# Altium footprint library DIP-CN  0607.PcbLib: 329 footprints (part 14 of 21)
Each footprint in its own frame and in the unit in brackets; x right, y up, seen from the top. Pads: shape width x height; smd on the part's side, far side on the other; paste and mask are expansions set on the pad; w line width, h text height; cw(c..) or ccw(c..) is an arc to the next point about the centre after c.
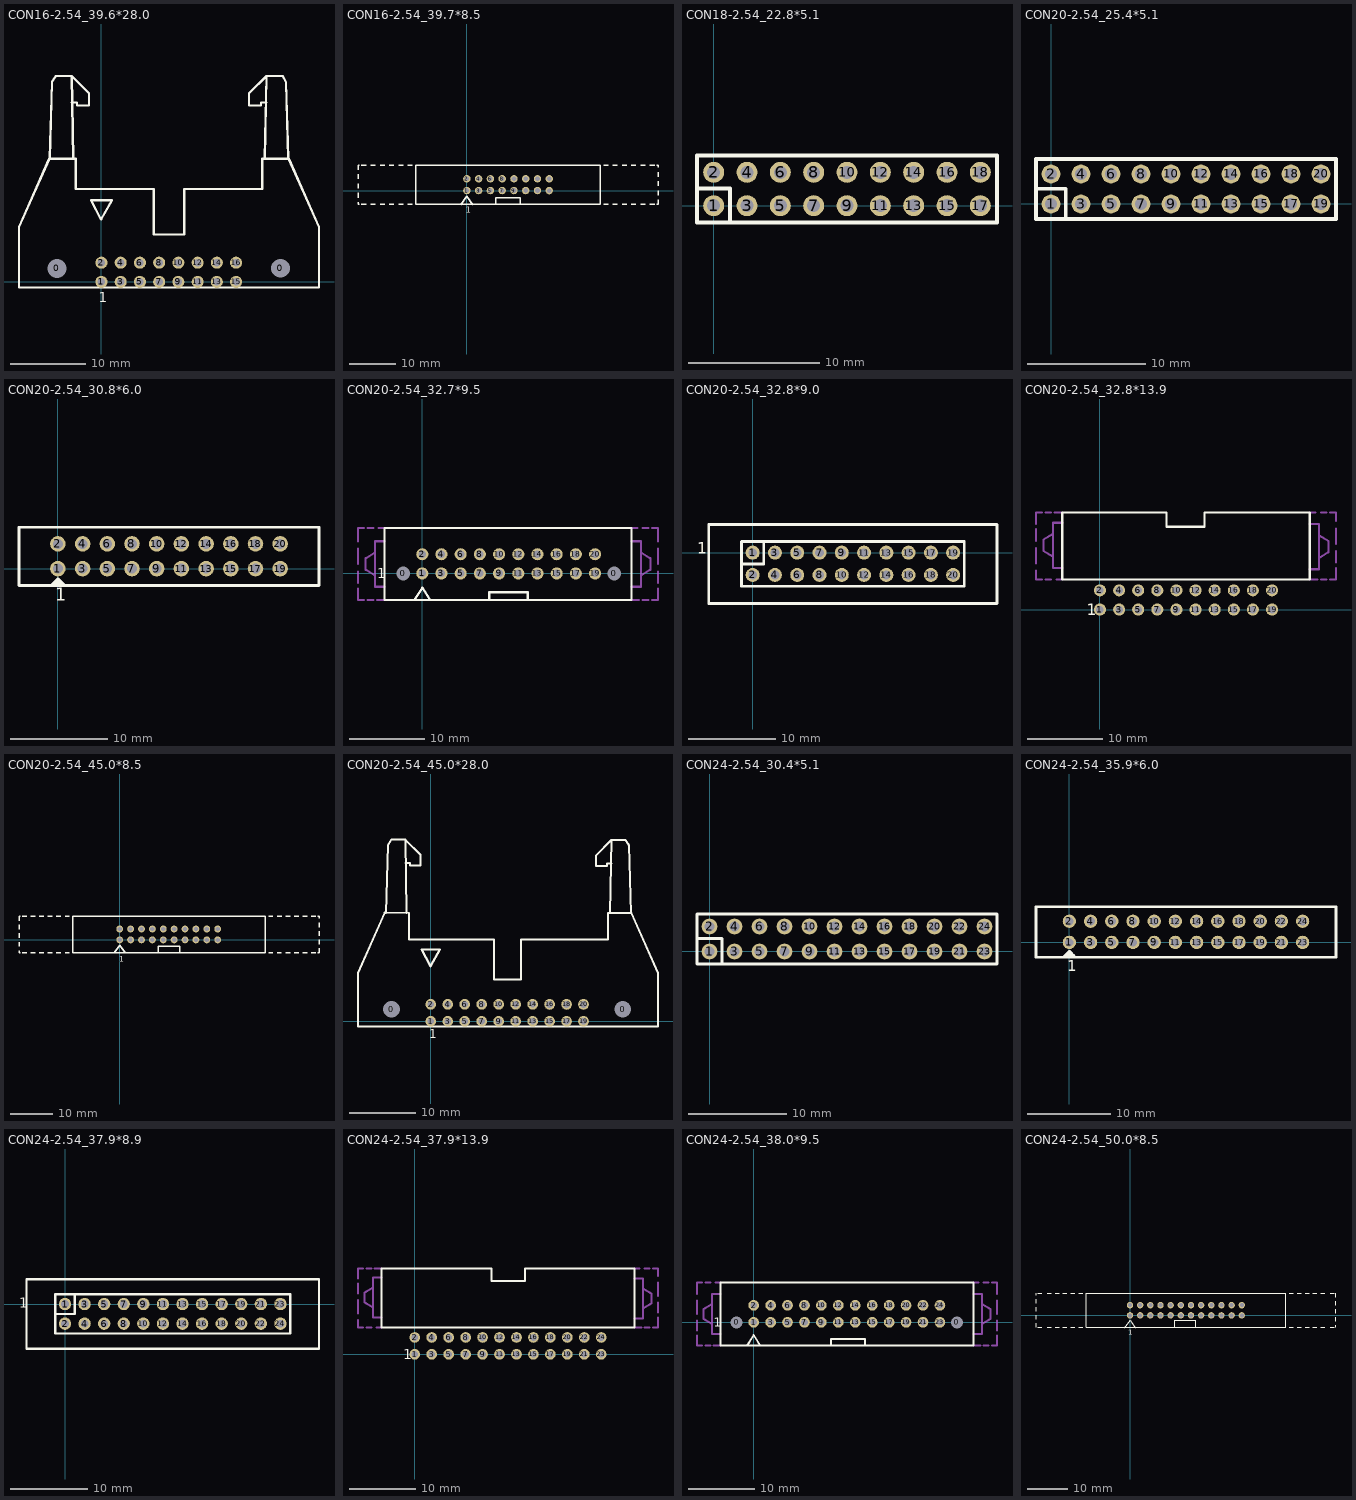
[diagram p13: the footprints below, top view; thin cyan lines are the x and y axes]

## CON16-2.54_39.6*28.0 [mm]
pads (18):
  round 1.6 hole 2.5 unplated: 0(-5.881,1.797) 0(23.621,1.801)
  round 1.6 hole 1: 1(0,0) 2(0,2.54) 3(2.54,0) 4(2.54,2.54) 5(5.08,0) 6(5.08,2.54) 7(7.62,0) 8(7.62,2.54) 9(10.16,0) 10(10.16,2.54) 11(12.7,0) 12(12.7,2.54) 13(15.24,0) 14(15.24,2.54) 15(17.779,-0.003) 16(17.779,2.537)
TopOverlay:
  lines w0.3: -6.828,16.257 -6.528,26.397 -6.028,27.197 -3.928,27.197 ; -3.928,23.697 -3.228,23.697 -3.228,23.297 -1.628,23.297 -1.628,24.897 -3.928,27.197 ; -3.728,16.257 -3.928,27.197 ; 21.58,16.253 21.78,27.193 ; 21.78,23.693 21.08,23.693 21.08,23.293 19.48,23.293 19.48,24.893 21.78,27.193 ; 24.68,16.253 24.38,26.393 23.88,27.193 21.78,27.193 ; -10.881,-0.743 28.726,-0.739 28.726,7.262 24.738,16.253 21.233,16.253 21.233,12.266 10.921,12.266 10.921,6.246 6.908,6.246 6.908,12.266 -3.381,12.257 -3.381,16.257 -6.881,16.257 -10.881,7.257 -10.881,-0.743 ; -1.381,10.782 -0.031,8.232 1.394,10.782 -1.381,10.782
  text "1" at -0.381,-2.667 h1.3
BottomOverlay:
  lines w0.3: -1.016,1.27 18.415,1.27 ; 1.27,-0.829 1.27,3.616 ; 3.81,-0.829 3.81,3.616 ; 6.35,-0.829 6.35,3.616 ; 8.89,-0.829 8.89,3.616 ; 11.43,-0.829 11.43,3.616 ; 13.97,-0.829 13.97,3.616 ; 16.51,-0.829 16.51,3.616

## CON16-2.54_39.7*8.5 [mm]
pads (16):
  round 1.6 hole 1: 1(0,0) 2(0,2.54) 3(2.54,0) 4(2.54,2.54) 5(5.08,0) 6(5.08,2.54) 7(7.62,0) 8(7.62,2.54) 9(10.16,0) 10(10.16,2.54) 11(12.7,0) 12(12.7,2.54) 13(15.24,0) 14(15.24,2.54) 15(17.779,-0.003) 16(17.779,2.537)
TopOverlay:
  lines w0.3: -23.5,-2.5 -23.5,-3 -23.25,-3 ; -23.5,-1.5 -23.5,-0.5 ; -23.5,0.5 -23.5,1.5 ; -23.5,2.5 -23.5,3.5 ; -23.5,4.5 -23.5,5.5 -23.25,5.5 ; -22.75,-3 -21.75,-3 ; -22.75,5.5 -21.75,5.5 ; -20.75,-3 -19.75,-3 ; -20.75,5.5 -19.75,5.5 ; -18.75,-3 -17.75,-3 ; -18.75,5.5 -17.75,5.5 ; -16.75,-3 -15.75,-3 ; -16.75,5.5 -15.75,5.5 ; -14.75,-3 -13.75,-3 ; -14.75,5.5 -13.75,5.5 ; -12.75,-3 -11.75,-3 ; -12.75,5.5 -11.75,5.5 ; -1.27,-3.048 0,-1.27 1.27,-3.048 ; 6.25,-3 6.25,-1.5 11.5,-1.5 11.5,-3 ; 29.5,-3 30.5,-3 ; 29.5,5.5 30.5,5.5 ; 31.5,-3 32.5,-3 ; 31.5,5.5 32.5,5.5 ; 33.5,-3 34.5,-3 ; 33.5,5.5 34.5,5.5 ; 35.5,-3 36.5,-3 ; 35.5,5.5 36.5,5.5 ; 37.5,-3 38.5,-3 ; 37.5,5.5 38.5,5.5 ; 39.5,-3 40.5,-3 ; 39.5,5.5 40.5,5.5 ; 41,-3 41.25,-3 41.25,-2 ; 41,5.5 41.25,5.5 41.25,5 ; 41.25,-1 41.25,0 ; 41.25,1 41.25,2 ; 41.25,3 41.25,4 ; -11,-3 -11,5.5 28.75,5.5 28.75,-3 -11,-3
  text "1" at -0.254,-4.826 h1.3
BottomOverlay:
  lines w0.3: -1.016,1.27 18.415,1.27 ; 1.27,-0.829 1.27,3.616 ; 3.81,-0.829 3.81,3.616 ; 6.35,-0.829 6.35,3.616 ; 8.89,-0.829 8.89,3.616 ; 11.43,-0.829 11.43,3.616 ; 13.97,-0.829 13.97,3.616 ; 16.51,-0.829 16.51,3.616

## CON18-2.54_22.8*5.1 [mm]
pads (18):
  round 1.6 hole 1: 1(0,0) 2(0,2.54) 3(2.54,0) 4(2.54,2.54) 5(5.08,0) 6(5.08,2.54) 7(7.62,0) 8(7.62,2.54) 9(10.16,0) 10(10.16,2.54) 11(12.7,0) 12(12.7,2.54) 13(15.24,0) 14(15.24,2.54) 15(17.78,0) 16(17.78,2.54) 17(20.32,0) 18(20.32,2.54)
TopOverlay:
  lines w0.3: -1.27,1.3 1.25,1.3 1.25,-1.245 ; -1.27,-1.27 -1.27,3.81 21.59,3.81 21.59,-1.27 -1.27,-1.27

## CON20-2.54_25.4*5.1 [mm]
pads (20):
  round 1.6 hole 1: 1(0,0) 2(0,2.54) 3(2.54,0) 4(2.54,2.54) 5(5.08,0) 6(5.08,2.54) 7(7.62,0) 8(7.62,2.54) 9(10.16,0) 10(10.16,2.54) 11(12.7,0) 12(12.7,2.54) 13(15.24,0) 14(15.24,2.54) 15(17.78,0) 16(17.78,2.54) 17(20.32,0) 18(20.32,2.54) 19(22.86,0) 20(22.86,2.54)
TopOverlay:
  lines w0.3: -1.27,1.3 1.25,1.3 1.25,-1.245 ; -1.27,-1.27 24.13,-1.27 24.13,3.81 -1.27,3.81 -1.27,-1.27

## CON20-2.54_30.8*6.0 [mm]
pads (20):
  round 1.6 hole 1: 1(0,0) 2(0,2.54) 3(2.54,0) 4(2.54,2.54) 5(5.08,0) 6(5.08,2.54) 7(7.62,0) 8(7.62,2.54) 9(10.16,0) 10(10.16,2.54) 11(12.7,0) 12(12.7,2.54) 13(15.24,0) 14(15.24,2.54) 15(17.78,0) 16(17.78,2.54) 17(20.32,0) 18(20.32,2.54) 19(22.86,0) 20(22.86,2.54)
TopOverlay:
  lines w0.3: -0.7,-1.75 0,-1.05 ; -0.515,-1.565 0.515,-1.565 ; -0.423,-1.473 0.306,-1.473 ; -0.258,-1.308 0.251,-1.308 ; 0,-1.75 0,-1.05 ; 0.7,-1.75 0,-1.05 ; -4,-1.75 26.85,-1.75 26.85,4.25 -4,4.25 -4,-1.75
  text "1" at -0.254,-3.302 h1.3
BottomOverlay:
  lines w0.3: -1.016,1.27 23.876,1.27 ; 1.27,-0.829 1.27,3.616 ; 3.81,-0.829 3.81,3.616 ; 6.35,-0.829 6.35,3.616 ; 8.89,-0.829 8.89,3.616 ; 11.43,-0.829 11.43,3.616 ; 13.97,-0.829 13.97,3.616 ; 16.51,-0.829 16.51,3.616 ; 19.05,-0.829 19.05,3.616 ; 21.59,-0.829 21.59,3.616

## CON20-2.54_32.7*9.5 [mm]
pads (22):
  round 1.5 hole 1.8 unplated: 0(-2.54,0) 0(25.4,0)
  round 1.6 hole 1: 1(0,0) 2(0,2.54) 3(2.54,0) 4(2.54,2.54) 5(5.08,0) 6(5.08,2.54) 7(7.62,0) 8(7.62,2.54) 9(10.16,0) 10(10.16,2.54) 11(12.7,0) 12(12.7,2.54) 13(15.24,0) 14(15.24,2.54) 15(17.78,0) 16(17.78,2.54) 17(20.32,0) 18(20.32,2.54) 19(22.86,0) 20(22.86,2.54)
TopOverlay:
  lines w0.3: 8.85,-3.5 8.85,-2.5 13.97,-2.5 13.97,-3.5 ; -1,-3.5 0,-1.905 1,-3.5 ; -1,-3.5 1,-3.5 ; -1,-3.5 1,-3.5 ; -1,-3.5 1,-3.5 ; -5,-3.5 27.686,-3.5 27.686,6 -5,6 -5,-3.5
  text "1" at -5.969,-0.635 h1.3
BottomOverlay:
  lines w0.3: -1.016,1.27 23.876,1.27 ; 1.27,-0.829 1.27,3.616 ; 3.81,-0.829 3.81,3.616 ; 6.35,-0.829 6.35,3.616 ; 8.89,-0.829 8.89,3.616 ; 11.43,-0.829 11.43,3.616 ; 13.97,-0.829 13.97,3.616 ; 16.51,-0.829 16.51,3.616 ; 19.05,-0.829 19.05,3.616 ; 21.59,-0.829 21.59,3.616
Mechanical7:
  lines w0.3: -8.5,-2 -8.5,-3.5 -7.75,-3.5 ; -8.5,-1.25 -8.5,0.25 ; -8.5,1.25 -8.5,3.25 ; -8.5,4.25 -8.5,6 -7.75,6 ; -7.25,-3.5 -6.5,-3.5 ; -7.25,6 -6.5,6 ; -6,-3.5 -5,-3.5 ; -5.75,6 -5,6 ; -5,-1.75 -6.25,-1.75 -6.25,-0.25 ; -5,4.25 -6.25,4.25 -6.25,2.75 ; 27.686,-3.5 28.686,-3.5 ; 27.686,-1.75 28.936,-1.75 28.936,-0.25 ; 27.686,4.25 28.936,4.25 28.936,2.75 ; 27.686,6 28.436,6 ; 29.186,-3.5 29.936,-3.5 ; 29.186,6 29.936,6 ; 30.436,-3.5 31.186,-3.5 31.186,-2 ; 30.436,6 31.186,6 31.186,4.25 ; 31.186,-1.25 31.186,0.25 ; 31.186,1.25 31.186,3.25 ; -6.25,-0.25 -7.5,0.5 -7.5,2 -6.25,2.75 ; -6.25,-0.25 -6.25,2.75 ; 28.936,-0.25 30.186,0.5 30.186,2 28.936,2.75 ; 28.936,-0.25 28.936,2.75

## CON20-2.54_32.8*9.0 [mm]
pads (20):
  round 1.6 hole 1: 1(0,0) 2(0,-2.54) 3(2.54,0) 4(2.54,-2.54) 5(5.08,0) 6(5.08,-2.54) 7(7.62,0) 8(7.62,-2.54) 9(10.16,0) 10(10.16,-2.54) 11(12.7,0) 12(12.7,-2.54) 13(15.24,0) 14(15.24,-2.54) 15(17.78,0) 16(17.78,-2.54) 17(20.32,0) 18(20.32,-2.54) 19(22.86,0) 20(22.86,-2.54)
TopOverlay:
  lines w0.3: -1.27,-1.29 1.25,-1.29 ; 1.27,-1.27 1.27,1.25 ; -5,-5.79 27.86,-5.79 27.86,3.21 -5,3.21 -5,-5.79 ; -1.27,-3.81 -1.27,1.27 24.13,1.27 24.13,-3.81 -1.27,-3.81
  text "1" at -6.35,-0.127 h1.3
BottomOverlay:
  lines w0.3: -1.016,-1.29 23.876,-1.29 ; 1.27,-3.429 1.27,1.016 ; 3.81,-3.429 3.81,1.016 ; 6.35,-3.429 6.35,1.016 ; 8.89,-3.429 8.89,1.016 ; 11.43,-3.429 11.43,1.016 ; 13.97,-3.429 13.97,1.016 ; 16.51,-3.429 16.51,1.016 ; 19.05,-3.429 19.05,1.016 ; 21.59,-3.429 21.59,1.016

## CON20-2.54_32.8*13.9 [mm]
pads (20):
  round 1.6 hole 1: 1(0,0) 2(0,2.54) 3(2.54,0) 4(2.54,2.54) 5(5.08,0) 6(5.08,2.54) 7(7.62,0) 8(7.62,2.54) 9(10.16,0) 10(10.16,2.54) 11(12.7,0) 12(12.7,2.54) 13(15.24,0) 14(15.24,2.54) 15(17.78,0) 16(17.78,2.54) 17(20.32,0) 18(20.32,2.54) 19(22.86,0) 20(22.86,2.54)
TopOverlay:
  lines w0.3: -5,4 -5,12.9 8.85,12.9 8.85,11 13.9,11 13.9,12.9 27.86,12.9 27.86,4 -5,4
  text "1" at -1.75,-0.75 h1.52
Mechanical7:
  lines w0.3: -8.5,5.15 -8.5,4 -7.75,4 ; -8.5,6.15 -8.5,8.15 ; -8.5,9.15 -8.5,10.65 ; -8.5,11.4 -8.5,12.9 -7.75,12.9 ; -7.25,4 -6.5,4 ; -7.25,12.9 -6.5,12.9 ; -6,12.9 -5,12.9 ; -5.75,4 -5,4 ; -5,5.531 -6.25,5.531 -6.25,7.031 ; -5,11.531 -6.25,11.531 -6.25,10.031 ; 27.86,4 28.86,4 ; 27.86,5.369 29.11,5.369 29.11,6.869 ; 27.86,11.369 29.11,11.369 29.11,9.869 ; 27.86,12.9 28.61,12.9 ; 29.36,4 30.11,4 ; 29.36,12.9 30.11,12.9 ; 30.61,4 31.36,4 31.36,5.5 ; 30.61,12.9 31.36,12.9 31.36,11.75 ; 31.36,6.25 31.36,7.75 ; 31.36,8.75 31.36,10.75 ; -6.25,7.031 -6.25,10.031 ; -6.25,7.031 -7.5,7.781 -7.5,9.281 -6.25,10.031 ; 29.11,6.869 30.36,7.619 30.36,9.119 29.11,9.869 ; 29.11,6.869 29.11,9.869

## CON20-2.54_45.0*8.5 [mm]
pads (20):
  round 1.6 hole 1: 1(0.001,0.003) 2(0.001,2.543) 3(2.541,0.003) 4(2.541,2.543) 5(5.081,0.003) 6(5.081,2.543) 7(7.621,0.003) 8(7.621,2.543) 9(10.161,0.003) 10(10.161,2.543) 11(12.701,0.003) 12(12.701,2.543) 13(15.241,0.003) 14(15.241,2.543) 15(17.78,0) 16(17.78,2.54) 17(20.32,0) 18(20.32,2.54) 19(22.86,0) 20(22.86,2.54)
TopOverlay:
  lines w0.3: -23.5,-2.5 -23.5,-3 -23.25,-3 ; -23.5,-1.5 -23.5,-0.5 ; -23.5,0.5 -23.5,1.5 ; -23.5,2.5 -23.5,3.5 ; -23.5,4.5 -23.5,5.5 -23.25,5.5 ; -22.75,-3 -21.75,-3 ; -22.75,5.5 -21.75,5.5 ; -20.75,-3 -19.75,-3 ; -20.75,5.5 -19.75,5.5 ; -18.75,-3 -17.75,-3 ; -18.75,5.5 -17.75,5.5 ; -16.75,-3 -15.75,-3 ; -16.75,5.5 -15.75,5.5 ; -14.75,-3 -13.75,-3 ; -14.75,5.5 -13.75,5.5 ; -12.75,-3 -11.75,-3 ; -12.75,5.5 -11.75,5.5 ; -1.27,-3.048 0,-1.27 1.27,-3.048 ; 9,-3 9,-1.5 14,-1.5 14,-3 ; 34.75,-3 35.75,-3 ; 34.75,5.5 35.75,5.5 ; 36.75,-3 37.75,-3 ; 36.75,5.5 37.75,5.5 ; 38.75,-3 39.75,-3 ; 38.75,5.5 39.75,5.5 ; 40.75,-3 41.75,-3 ; 40.75,5.5 41.75,5.5 ; 42.75,-3 43.75,-3 ; 42.75,5.5 43.75,5.5 ; 44.75,-3 45.75,-3 ; 44.75,5.5 45.75,5.5 ; 46.25,-3 46.5,-3 46.5,-2 ; 46.25,5.5 46.5,5.5 46.5,5 ; 46.5,-1 46.5,0 ; 46.5,1 46.5,2 ; 46.5,3 46.5,4 ; -11,-3 -11,5.5 34,5.5 34,-3 -11,-3
  text "1" at -0.127,-5.08 h1.3
BottomOverlay:
  lines w0.3: -1.015,1.273 23.877,1.273 ; 1.271,-0.826 1.271,3.619 ; 3.811,-0.826 3.811,3.619 ; 6.351,-0.826 6.351,3.619 ; 8.891,-0.826 8.891,3.619 ; 11.431,-0.826 11.431,3.619 ; 13.971,-0.826 13.971,3.619 ; 16.511,-0.826 16.511,3.619 ; 19.051,-0.826 19.051,3.619 ; 21.591,-0.826 21.591,3.619

## CON20-2.54_45.0*28.0 [mm]
pads (22):
  round 1.6 hole 2.5 unplated: 0(-5.881,1.797) 0(28.739,1.797)
  round 1.6 hole 1: 1(0,0) 2(0,2.54) 3(2.54,0) 4(2.54,2.54) 5(5.08,0) 6(5.08,2.54) 7(7.62,0) 8(7.62,2.54) 9(10.16,0) 10(10.16,2.54) 11(12.7,0) 12(12.7,2.54) 13(15.24,0) 14(15.24,2.54) 15(17.779,-0.003) 16(17.779,2.537) 17(20.319,-0.003) 18(20.319,2.537) 19(22.859,-0.003) 20(22.859,2.537)
TopOverlay:
  lines w0.3: -6.698,16.247 -6.398,26.387 -5.898,27.187 -3.798,27.187 ; -3.798,23.687 -3.098,23.687 -3.098,23.287 -1.498,23.287 -1.498,24.887 -3.798,27.187 ; -3.598,16.247 -3.798,27.187 ; 26.846,16.2 27.046,27.139 ; 27.046,23.639 26.346,23.639 26.346,23.239 24.746,23.239 24.746,24.839 27.046,27.139 ; 29.946,16.2 29.646,26.339 29.146,27.139 27.046,27.139 ; -10.881,-0.743 -10.881,7.257 -6.881,16.257 -3.251,16.247 -3.251,12.247 9.499,12.247 9.499,6.247 13.499,6.247 13.499,12.247 26.499,12.247 26.499,16.247 29.999,16.247 33.999,7.247 33.999,-0.753 -10.881,-0.743 ; -1.381,10.782 -0.031,8.232 1.394,10.782 -1.381,10.782
  text "1" at -0.254,-2.54 h1.3
BottomOverlay:
  lines w0.3: -1.016,1.27 23.876,1.27 ; 1.27,-0.829 1.27,3.616 ; 3.81,-0.829 3.81,3.616 ; 6.35,-0.829 6.35,3.616 ; 8.89,-0.829 8.89,3.616 ; 11.43,-0.829 11.43,3.616 ; 13.97,-0.829 13.97,3.616 ; 16.51,-0.829 16.51,3.616 ; 19.05,-0.829 19.05,3.616 ; 21.59,-0.829 21.59,3.616

## CON24-2.54_30.4*5.1 [mm]
pads (24):
  round 1.6 hole 1: 1(0,0) 2(0,2.54) 3(2.54,0) 4(2.54,2.54) 5(5.08,0) 6(5.08,2.54) 7(7.62,0) 8(7.62,2.54) 9(10.16,0) 10(10.16,2.54) 11(12.7,0) 12(12.7,2.54) 13(15.24,0) 14(15.24,2.54) 15(17.78,0) 16(17.78,2.54) 17(20.32,0) 18(20.32,2.54) 19(22.86,0) 20(22.86,2.54) 21(25.4,0) 22(25.4,2.54) 23(27.94,0) 24(27.94,2.54)
TopOverlay:
  lines w0.3: -1.27,1.3 1.25,1.3 1.25,-1.245 ; -1.27,-1.27 -1.27,3.81 29.21,3.81 29.21,-1.27 -1.27,-1.27

## CON24-2.54_35.9*6.0 [mm]
pads (24):
  round 1.6 hole 1: 1(0,0) 2(0,2.54) 3(2.54,0) 4(2.54,2.54) 5(5.08,0) 6(5.08,2.54) 7(7.62,0) 8(7.62,2.54) 9(10.16,0) 10(10.16,2.54) 11(12.7,0) 12(12.7,2.54) 13(15.24,0) 14(15.24,2.54) 15(17.78,0) 16(17.78,2.54) 17(20.32,0) 18(20.32,2.54) 19(22.86,0) 20(22.86,2.54) 21(25.4,0) 22(25.4,2.54) 23(27.94,0) 24(27.94,2.54)
TopOverlay:
  lines w0.3: -0.7,-1.75 0,-1.05 ; -0.515,-1.565 0.515,-1.565 ; -0.423,-1.473 0.306,-1.473 ; -0.258,-1.308 0.251,-1.308 ; 0,-1.75 0,-1.05 ; 0.7,-1.75 0,-1.05 ; -4,-1.75 -4,4.25 31.94,4.25 31.94,-1.75 -4,-1.75
  text "1" at -0.254,-3.429 h1.3

## CON24-2.54_37.9*8.9 [mm]
pads (24):
  round 1.6 hole 1: 1(0,0) 2(0,-2.54) 3(2.54,0) 4(2.54,-2.54) 5(5.08,0) 6(5.08,-2.54) 7(7.62,0) 8(7.62,-2.54) 9(10.16,0) 10(10.16,-2.54) 11(12.7,0) 12(12.7,-2.54) 13(15.24,0) 14(15.24,-2.54) 15(17.78,0) 16(17.78,-2.54) 17(20.32,0) 18(20.32,-2.54) 19(22.86,0) 20(22.86,-2.54) 21(25.4,0) 22(25.4,-2.54) 23(27.94,0) 24(27.94,-2.54)
TopOverlay:
  lines w0.3: -1.27,-1.29 1.25,-1.29 1.25,1.23 ; -5,-5.79 -5,3.21 32.94,3.21 32.94,-5.79 -5,-5.79 ; -1.27,-3.81 29.21,-3.81 29.21,1.27 -1.27,1.27 -1.27,-3.81
  text "1" at -5.969,-0.508 h1.3
BottomOverlay:
  lines w0.3: -1.016,-1.29 28.956,-1.29 ; 1.25,-3.429 1.25,1.016 ; 3.81,-3.429 3.81,1.016 ; 6.35,-3.429 6.35,1.016 ; 8.89,-3.429 8.89,1.016 ; 11.43,-3.429 11.43,1.016 ; 13.97,-3.429 13.97,1.016 ; 16.51,-3.429 16.51,1.016 ; 19.05,-3.556 19.05,0.889 ; 21.59,-3.556 21.59,0.889 ; 24.257,-3.556 24.257,0.889 ; 26.67,-3.556 26.67,0.889

## CON24-2.54_37.9*13.9 [mm]
pads (24):
  round 1.6 hole 1: 1(0,0) 2(0,2.54) 3(2.54,0) 4(2.54,2.54) 5(5.08,0) 6(5.08,2.54) 7(7.62,0) 8(7.62,2.54) 9(10.16,0) 10(10.16,2.54) 11(12.7,0) 12(12.7,2.54) 13(15.24,0) 14(15.24,2.54) 15(17.78,0) 16(17.78,2.54) 17(20.32,0) 18(20.32,2.54) 19(22.86,0) 20(22.86,2.54) 21(25.4,0) 22(25.4,2.54) 23(27.94,0) 24(27.94,2.54)
TopOverlay:
  lines w0.3: -5,4 -5,12.9 11.5,12.9 11.5,11 16.55,11 16.55,12.9 32.94,12.9 32.94,4 -5,4
  text "1" at -1.75,-0.75 h1.52
Mechanical7:
  lines w0.3: -8.5,5.15 -8.5,4 -7.75,4 ; -8.5,6.15 -8.5,8.15 ; -8.5,9.15 -8.5,10.65 ; -8.5,11.4 -8.5,12.9 -7.75,12.9 ; -7.25,4 -6.5,4 ; -7.25,12.9 -6.5,12.9 ; -6,12.9 -5,12.9 ; -5.75,4 -5,4 ; -5,5.531 -6.25,5.531 -6.25,7.031 ; -5,11.531 -6.25,11.531 -6.25,10.031 ; 32.94,4 33.94,4 ; 32.94,5.369 34.19,5.369 34.19,6.869 ; 32.94,11.369 34.19,11.369 34.19,9.869 ; 32.94,12.9 33.69,12.9 ; 34.44,4 35.19,4 ; 34.44,12.9 35.19,12.9 ; 35.69,4 36.44,4 36.44,5.5 ; 35.69,12.9 36.44,12.9 36.44,11.75 ; 36.44,6.25 36.44,7.75 ; 36.44,8.75 36.44,10.75 ; -6.25,7.031 -7.5,7.781 -7.5,9.281 -6.25,10.031 ; -6.25,7.031 -6.25,10.031 ; 34.19,6.869 35.44,7.619 35.44,9.119 34.19,9.869 ; 34.19,6.869 34.19,9.869

## CON24-2.54_38.0*9.5 [mm]
pads (26):
  round 1.5 hole 1.8 unplated: 0(-2.54,0) 0(30.48,0)
  round 1.6 hole 1: 1(0,0) 2(0,2.54) 3(2.54,0) 4(2.54,2.54) 5(5.08,0) 6(5.08,2.54) 7(7.62,0) 8(7.62,2.54) 9(10.16,0) 10(10.16,2.54) 11(12.7,0) 12(12.7,2.54) 13(15.24,0) 14(15.24,2.54) 15(17.78,0) 16(17.78,2.54) 17(20.32,0) 18(20.32,2.54) 19(22.86,0) 20(22.86,2.54) 21(25.4,0) 22(25.4,2.54) 23(27.94,0) 24(27.94,2.54)
TopOverlay:
  lines w0.3: -5,6 -5,-3.5 27.686,-3.5 33,-3.5 33,6 -4.936,6 ; 11.6,-3.5 11.6,-2.5 16.72,-2.5 16.72,-3.5 ; -1,-3.5 1,-3.5 ; -1,-3.5 1,-3.5 ; -1,-3.5 1,-3.5 ; -1,-3.5 0,-1.905 1,-3.5
  text "1" at -5.969,-0.635 h1.3
BottomOverlay:
  lines w0.3: -1.016,1.27 28.956,1.27 ; 1.27,-0.829 1.27,3.616 ; 3.81,-0.829 3.81,3.616 ; 6.35,-0.829 6.35,3.616 ; 8.89,-0.829 8.89,3.616 ; 11.43,-0.829 11.43,3.616 ; 13.97,-0.829 13.97,3.616 ; 16.51,-0.829 16.51,3.616 ; 19.05,-0.829 19.05,3.616 ; 21.59,-0.889 21.59,3.556 ; 24.13,-0.829 24.13,3.616 ; 26.67,-0.889 26.67,3.556
Mechanical7:
  lines w0.3: -8.5,-2 -8.5,-3.5 -7.75,-3.5 ; -8.5,-1.25 -8.5,0.25 ; -8.5,1.25 -8.5,3.25 ; -8.5,4.25 -8.5,6 -7.75,6 ; -7.25,-3.5 -6.5,-3.5 ; -7.25,6 -6.5,6 ; -6,-3.5 -5,-3.5 ; -5.75,6 -5,6 ; -5,-1.75 -6.25,-1.75 -6.25,-0.25 ; -5,4.25 -6.25,4.25 -6.25,2.75 ; 33,-3.5 34,-3.5 ; 33,-1.75 34.25,-1.75 34.25,-0.25 ; 33,4.25 34.25,4.25 34.25,2.75 ; 33,6 33.75,6 ; 34.5,-3.5 35.25,-3.5 ; 34.5,6 35.25,6 ; 35.75,-3.5 36.5,-3.5 36.5,-2 ; 35.75,6 36.5,6 36.5,4.25 ; 36.5,-1.25 36.5,0.25 ; 36.5,1.25 36.5,3.25 ; -6.25,-0.25 -7.5,0.5 -7.5,2 -6.25,2.75 ; -6.25,-0.25 -6.25,2.75 ; 34.25,-0.25 35.5,0.5 35.5,2 34.25,2.75 ; 34.25,-0.25 34.25,2.75

## CON24-2.54_50.0*8.5 [mm]
pads (24):
  round 1.6 hole 1: 1(0,0) 2(0,2.54) 3(2.54,0) 4(2.54,2.54) 5(5.08,0) 6(5.08,2.54) 7(7.62,0) 8(7.62,2.54) 9(10.16,0) 10(10.16,2.54) 11(12.7,0) 12(12.7,2.54) 13(15.24,0) 14(15.24,2.54) 15(17.779,-0.003) 16(17.779,2.537) 17(20.319,-0.003) 18(20.319,2.537) 19(22.859,-0.003) 20(22.859,2.537) 21(25.399,-0.003) 22(25.399,2.537) 23(27.939,-0.003) 24(27.939,2.537)
TopOverlay:
  lines w0.3: -23.501,-3.003 -23.501,-2.003 ; -23.501,-1.003 -23.501,-0.003 ; -23.501,0.997 -23.501,1.997 ; -23.501,2.997 -23.501,3.997 ; -23.501,4.997 -23.501,5.497 ; -23.001,-3.003 -22.001,-3.003 ; -23.001,5.497 -22.001,5.497 ; -20.751,-3.003 -19.751,-3.003 ; -20.751,5.497 -19.751,5.497 ; -18.751,-3.003 -17.751,-3.003 ; -18.751,5.497 -17.751,5.497 ; -16.751,-3.003 -15.751,-3.003 ; -16.751,5.497 -15.751,5.497 ; -14.751,-3.003 -13.751,-3.003 ; -14.751,5.497 -13.751,5.497 ; -12.751,-3.003 -11.751,-3.003 ; -12.751,5.497 -11.751,5.497 ; -1.271,-3.051 -0.001,-1.273 1.269,-3.051 ; 11.249,-3.003 11.249,-1.253 16.499,-1.253 16.499,-3.003 ; 39.749,-3.003 40.749,-3.003 ; 39.749,5.497 40.749,5.497 ; 41.749,-3.003 42.749,-3.003 ; 41.749,5.497 42.749,5.497 ; 43.749,-3.003 44.749,-3.003 ; 43.749,5.497 44.749,5.497 ; 45.749,-3.003 46.749,-3.003 ; 45.749,5.497 46.749,5.497 ; 47.749,-3.003 48.749,-3.003 ; 47.749,5.497 48.749,5.497 ; 49.999,-3.003 50.999,-3.003 ; 49.999,5.497 50.999,5.497 ; 51.499,-3.003 51.499,-2.503 ; 51.499,-1.503 51.499,-0.503 ; 51.499,0.497 51.499,1.497 ; 51.499,2.497 51.499,3.497 ; 51.499,4.497 51.499,5.497 ; -11.001,-3.003 -11.001,5.497 38.999,5.497 38.999,-3.003 -11.001,-3.003
  text "1" at -0.381,-4.826 h1.3
BottomOverlay:
  lines w0.3: -1.016,1.27 28.956,1.27 ; 1.27,-0.829 1.27,3.616 ; 3.81,-0.829 3.81,3.616 ; 6.35,-0.829 6.35,3.616 ; 8.89,-0.829 8.89,3.616 ; 11.43,-0.829 11.43,3.616 ; 13.97,-0.829 13.97,3.616 ; 16.51,-0.829 16.51,3.616 ; 19.05,-0.829 19.05,3.616 ; 21.59,-0.889 21.59,3.556 ; 24.13,-0.829 24.13,3.616 ; 26.67,-0.889 26.67,3.556